# Altium schematic symbol library MMBT2222ALT1G.SchLib: 1 symbol
Pins are listed as number, name and electrical type; pins without a type are passive.

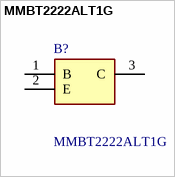
[diagram p0: symbol MMBT2222ALT1G]

## MMBT2222ALT1G
designator B?
MMBT2222ALT1G, NPN Bipolar Transistor,  0.6 A 40 V HFE:35 300 MHz Small Signal, 3-Pin SOT-23; Manufacturer_Name: onsemi; Geometry.Height: 1.11mm; Mouser Part Number: 863-MMBT2222ALT1G; Mouser Price/Stock: https://www.mouser.co.uk/ProductDetail/onsemi/MMBT2222ALT1G?qs=HVbQlW5zcXWwnD7Jokybqg%3D%3D; Manufacturer_Part_Number: MMBT2222ALT1G; Datasheet Link: http://www.onsemi.com/pub/Collateral/MMBT2222LT1-D.PDF
footprint SOT96P237X111-3N
pins: 1 B, 2 E, 3 C